# Altium footprint library PcbLib1.PcbLib: 3 footprints
Each footprint in its own frame and in the unit in brackets; x right, y up, seen from the top. Pads: shape width x height; smd on the part's side, far side on the other; paste and mask are expansions set on the pad; w line width, h text height; cw(c..) or ccw(c..) is an arc to the next point about the centre after c.
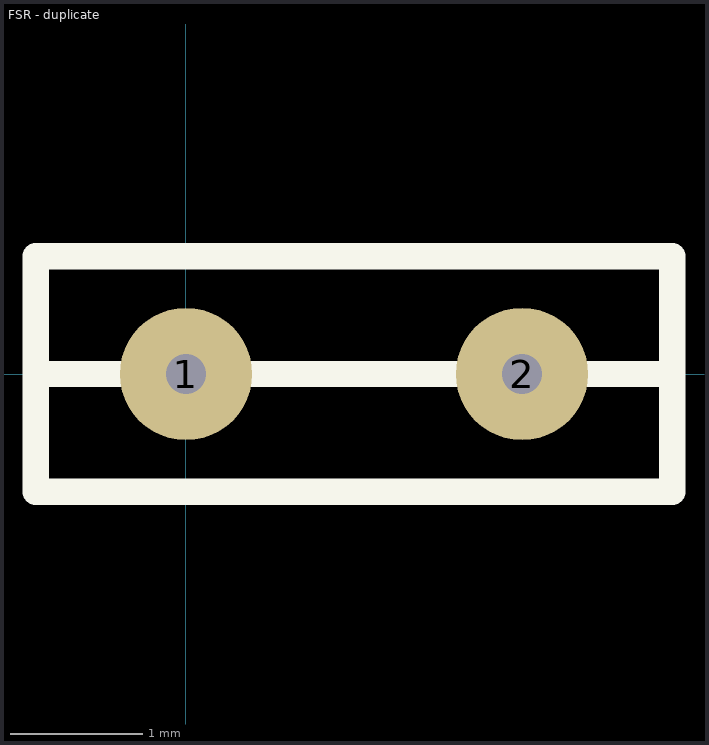
[diagram p0: the footprints below, top view; thin cyan lines are the x and y axes]

## fsr [mm]

## FSR - duplicate [mm]
pads (2):
  round 1 / inner round 4 / far side round 1 hole 0.3: 1(0,0) 2(2.54,0)
Top Overlay:
  lines w0.2: -1.135,0 1.54,0 ; 1,0 3.675,0 ; 3.675,0 3.675,-0.889 -1.135,-0.889 -1.135,0.889 3.675,0.889 3.675,0
3D body "MF01A-N-221-A01.stp": height 56.38, standoff -3.92, extent -7.88,-0.049 10.42,0.381

## PCBComponent_1 [mm]